# Altium schematic symbol library Schlib1.SchLib: 25 symbols
Pins are listed as number, name and electrical type; pins without a type are passive.

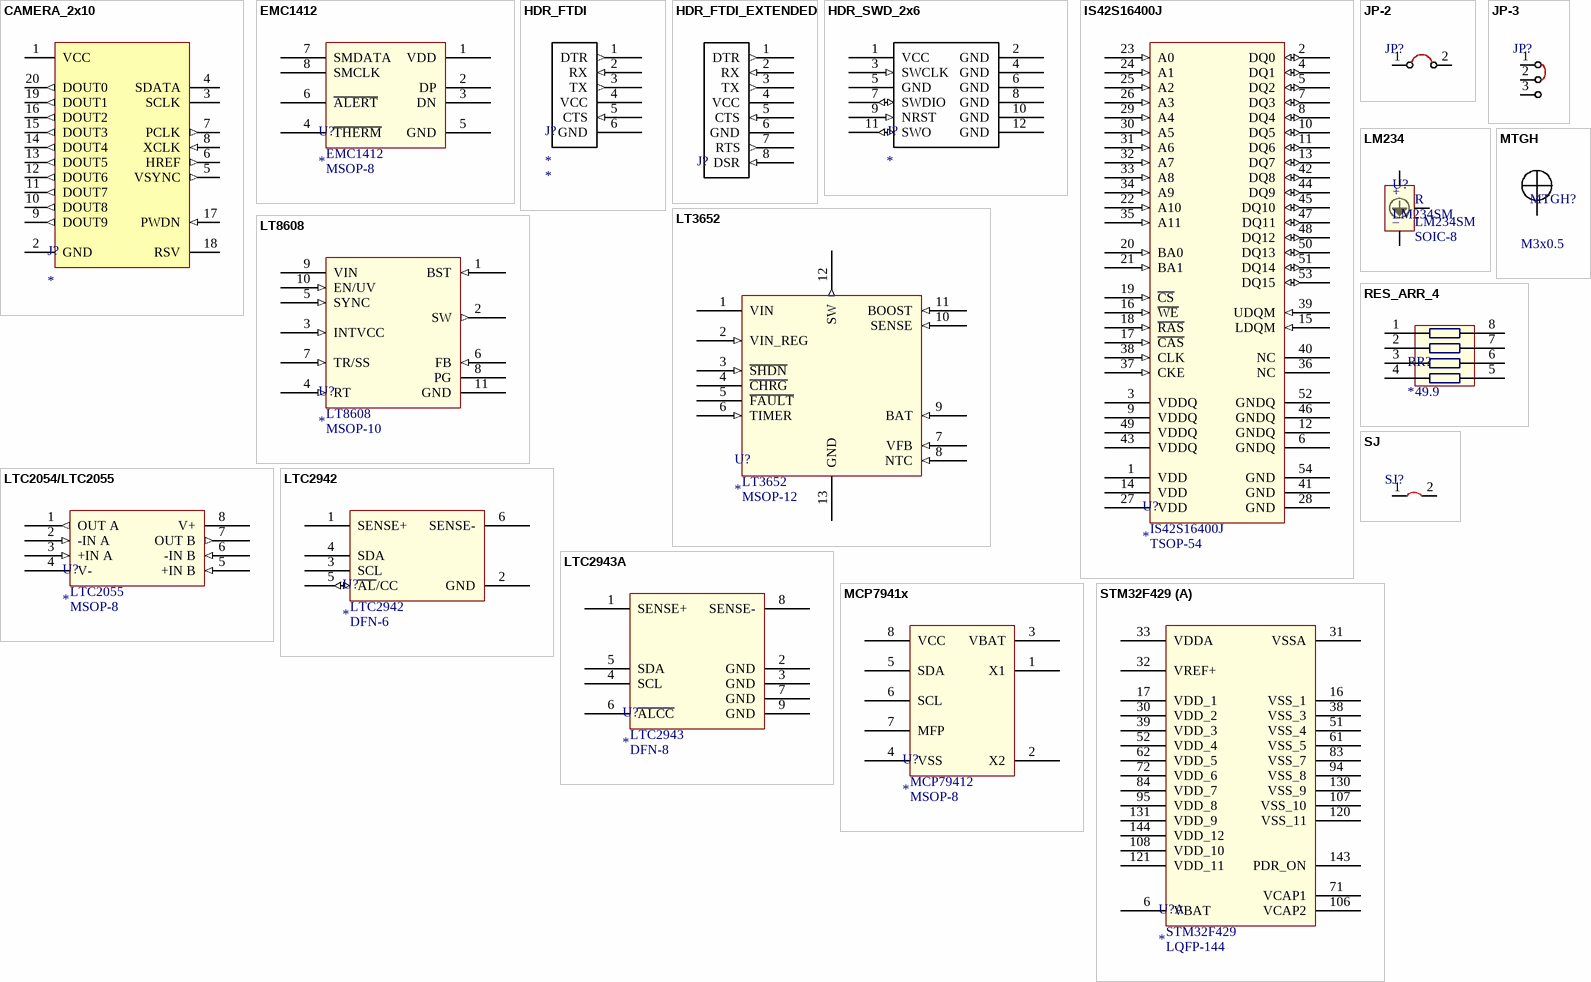
[diagram p0: symbols CAMERA_2x10 to STM32F429]

## CAMERA_2x10
designator J?
20-pin parallel camera connector for OV5642
pins: 1 VCC (power), 2 GND (power), 3 SCLK (oc), 4 SDATA (oc), 5 VSYNC (out), 6 HREF (out), 7 PCLK (out), 8 XCLK (in), 9 DOUT9 (out), 10 DOUT8 (out), 11 DOUT7 (out), 12 DOUT6 (out), 13 DOUT5 (out), 14 DOUT4 (out), 15 DOUT3 (out), 16 DOUT2 (out), 17 PWDN (in), 18 RSV, 19 DOUT1 (out), 20 DOUT0 (out)

## EMC1412
designator U?  PartNumber: EMC1412  PackageName: MSOP-8
Dual channel I2C temperature sensor
footprint TSOP65P490X110-8N (TSOP, 8-Leads, Body 3.00x3.00mm, Pitch 0.65mm (MSOP-8, MCP79412))
pins: 1 VDD (power), 2 DP, 3 DN, 4 ~{THERM} (oc), 5 GND (power), 6 ~{ALERT} (oc), 7 SMDATA (oc), 8 SMCLK (oc)

## HDR_FTDI
designator J?
Sparkfun FTDI pinout connector
footprint HDR_100TH_1x6 (100TH pin header 1x6 vertical)
pins: 1 DTR (out), 2 RX (in), 3 TX (out), 4 VCC (power), 5 CTS (in), 6 GND (power)

## HDR_FTDI_EXTENDED
designator J?  (value not drawn)
pins: 1 DTR (out), 2 RX (in), 3 TX (out), 4 VCC (power), 5 CTS (in), 6 GND (power), 7 RTS (out), 8 DSR (in)

## HDR_SWD_2x6
designator J?
6 pin SWD connector with +6 GND pins
footprint HDR_100TH_2X6_SMT (100TH pin header, 2x6, SMT)
pins: 1 VCC (power), 2 GND, 3 SWCLK (in), 4 GND, 5 GND (power), 6 GND, 7 SWDIO (io), 8 GND, 9 NRST (in), 10 GND, 11 SWO (io), 12 GND

## IS42S16400J
designator U?  PartNumber: IS42S16400J  PackageName: TSOP-54
1Mb x 16 x 4 bank (64 Mbit) SDRAM
footprint TSOP80P1170X120-54N (TSOP, 54-Leads, Body 22.22x10.16mm,  (IS42S16400J))
pins: 1 VDD (power), 2 DQ0 (io), 3 VDDQ (power), 4 DQ1 (io), 5 DQ2 (io), 6 GNDQ (power), 7 DQ3 (io), 8 DQ4 (io), 9 VDDQ (power), 10 DQ5 (io), 11 DQ6 (io), 12 GNDQ (power), 13 DQ7 (io), 14 VDD (power), 15 LDQM (in), 16 ~{WE} (in), 17 ~{CAS} (in), 18 ~{RAS} (in), 19 ~{CS} (in), 20 BA0 (in), 21 BA1 (in), 22 A10 (in), 23 A0 (in), 24 A1 (in), 25 A2 (in), 26 A3 (in), 27 VDD (power), 28 GND (power), 29 A4 (in), 30 A5 (in), 31 A6 (in), 32 A7 (in), 33 A8 (in), 34 A9 (in), 35 A11 (in), 36 NC, 37 CKE (in), 38 CLK (in), 39 UDQM (in), 40 NC, 41 GND (power), 42 DQ8 (io), 43 VDDQ (power), 44 DQ9 (io), 45 DQ10 (io), 46 GNDQ (power), 47 DQ11 (io), 48 DQ12 (io), 49 VDDQ (power), 50 DQ13 (io), 51 DQ14 (io), 52 GNDQ (power), 53 DQ15 (io), 54 GND (power)

## JP-2
designator JP?
2-pos Jumper
footprint HDR_100TH_1x2 (100TH pin header 1x2 vertical)
pins: 1, 2

## JP-3
designator JP?
3-pos Jumper
footprint HDR_100TH_1x3 (100TH pin header 1x3 vertical)
pins: 1, 2, 3

## LM234
designator U?, comment LM234SM  PackageName: SOIC-8
Adjustable current source; PartNumber: LM234SM
footprint SOIC127P600X175-8N (LM234) (SOIC, 8-Leads, Body 4.90x3.90mm, Pitch 1.27mm,)
pins: 1 V-, 2 R, 3 V+
text: +; –

## LT3652
designator U?  PartNumber: LT3652  PackageName: MSOP-12
MPPC and battery charger
footprint TSOP65P490X110_HS-13N (TSOP, 12-Leads, Body 4.04x3.00mm, Pitch 0.65mm, Thermal Pad 2.95x1.76mm,  (LT3652))
pins: 1 VIN (power), 2 VIN_REG (in), 3 ~{SHDN} (in), 4 ~{CHRG} (oc), 5 ~{FAULT} (oc), 6 TIMER (in), 7 VFB (in), 8 NTC (in), 9 BAT (in), 10 SENSE (in), 11 BOOST (in), 12 SW (out), 13 GND (power)

## LT8608
designator U?  PartNumber: LT8608  PackageName: MSOP-10
42V 1.5A step-down, low Iq
footprint TSSOP50P490X110_HS-11N (TSSOP, 10-Leads, Body 3.00x3.00mm, Pitch 0.50mm, Thermal Pad 1.88x1.68mm, IPC Medium Density)
pins: 1 BST (in), 2 SW (out), 3 INTVCC (in), 4 RT (in), 5 SYNC (in), 6 FB (in), 7 TR/SS (in), 8 PG (oc), 9 VIN (power), 10 EN/UV (in), 11 GND (power)

## LTC2054/LTC2055
designator U?  PartNumber: LTC2055  PackageName: MSOP-8
Dual zero-drift op amp
footprint TSOP65P490X110-8N (TSOP, 8-Leads, Body 3.00x3.00mm (LTC2054/LTC2055))
pins: 1 OUT A (out), 2 -IN A (in), 3 +IN A (in), 4 V- (power), 5 +IN B (in), 6 -IN B (in), 7 OUT B (out), 8 V+ (power)

## LTC2942
designator U?  PartNumber: LTC2942  PackageName: DFN-6
I2C fuel gauge
footprint DFN6-2x3-0.50 (DFN-6 2mm x 3mm, 0.50 BSC)
pins: 1 SENSE+ (power), 2 GND (power), 3 SCL (oc), 4 SDA (oc), 5 ~{AL}/CC (io), 6 SENSE- (power), 7 NC hidden

## LTC2943A
designator U?  PartNumber: LTC2943  PackageName: DFN-8
Multi-cell I2C fuel gauge
footprint DFN8-3x3 (LTC2943)
pins: 1 SENSE+, 2 GND (power), 3 GND (power), 4 SCL (oc), 5 SDA (oc), 6 ~{ALCC} (oc), 7 GND (power), 8 SENSE- (power), 9 GND (power)

## MCP7941x
designator U?  PackageName: MSOP-8  PartNumber: MCP79412
I2C RTC w/ SRAM and EEPROM
footprint TSOP65P490X110-8N (TSOP, 8-Leads, Body 3.00x3.00mm, Pitch 0.65mm (MSOP-8, MCP79412))
pins: 1 X1, 2 X2, 3 VBAT (power), 4 VSS (power), 5 SDA (oc), 6 SCL (oc), 7 MFP (oc), 8 VCC (power)

## MTGH
designator MTGH?  ScrewSize: M3x0.5  (hidden comment: *)
Mounting hole
footprint MTGH-M3x0.5 (M3 x 0.5 pan head mounting hole)
pins: 1 (power)

## RES_ARR_4
designator RR?  value 49.9
4 element resistor array
footprint CAC-80P319X150-8M (Chip Array, ConvexS, 8-Leads, Pitch 0.80mm,  Body 3.20x1.50mm, for Vishay CRA06S)
pins: 1 1A, 2 2A, 3 3A, 4 4A, 5 4B, 6 3B, 7 2B, 8 1B

## SJ
designator SJ?
Solder jumper
footprint SJ_0603
footprint SJ_0805
pins: 1, 2

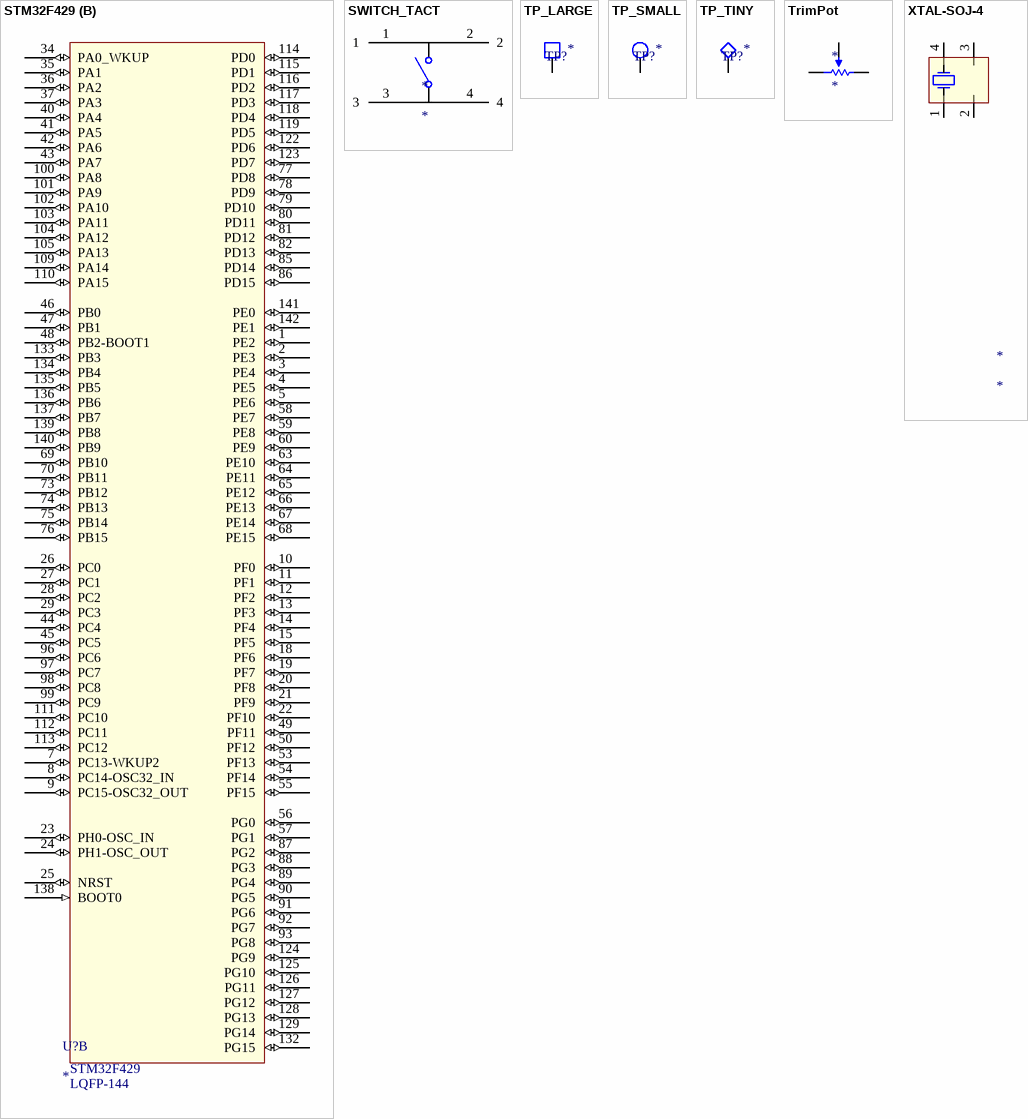
[diagram p1: symbols STM32F429 to XTAL-SOJ-4]

## STM32F429
designator U?  PartNumber: STM32F429  PackageName: LQFP-144
Cortex-M4 microcontroller
footprint TSQFP50P2200X2200X160-144M (TSQFP, 144-Leads, Body 20.00x20.00mm, Pitch 0.50mm, STM32F429)
part A pins: 6 VBAT (power), 16 VSS_1 (power), 17 VDD_1 (power), 30 VDD_2 (power), 31 VSSA (power), 32 VREF+ (power), 33 VDDA (power), 38 VSS_3 (power), 39 VDD_3 (power), 51 VSS_4 (power), 52 VDD_4 (power), 61 VSS_5 (power), 62 VDD_5 (power), 71 VCAP1 (power), 72 VDD_6 (power), 83 VSS_7 (power), 84 VDD_7 (power), 94 VSS_8 (power), 95 VDD_8 (power), 106 VCAP2 (power), 107 VSS_10 (power), 108 VDD_10 (power), 120 VSS_11 (power), 121 VDD_11 (power), 130 VSS_9 (power), 131 VDD_9 (power), 143 PDR_ON (power), 144 VDD_12 (power)
part B pins: 1 PE2 (io), 2 PE3 (io), 3 PE4 (io), 4 PE5 (io), 5 PE6 (io), 7 PC13-WKUP2 (io), 8 PC14-OSC32_IN (io), 9 PC15-OSC32_OUT (io), 10 PF0 (io), 11 PF1 (io), 12 PF2 (io), 13 PF3 (io), 14 PF4 (io), 15 PF5 (io), 18 PF6 (io), 19 PF7 (io), 20 PF8 (io), 21 PF9 (io), 22 PF10 (io), 23 PH0-OSC_IN (io), 24 PH1-OSC_OUT (io), 25 NRST (io), 26 PC0 (io), 27 PC1 (io), 28 PC2 (io), 29 PC3 (io), 34 PA0_WKUP (io), 35 PA1 (io), 36 PA2 (io), 37 PA3 (io), 40 PA4 (io), 41 PA5 (io), 42 PA6 (io), 43 PA7 (io), 44 PC4 (io), 45 PC5 (io), 46 PB0 (io), 47 PB1 (io), 48 PB2-BOOT1 (io), 49 PF11 (io), 50 PF12 (io), 53 PF13 (io), 54 PF14 (io), 55 PF15 (io), 56 PG0 (io), 57 PG1 (io), 58 PE7 (io), 59 PE8 (io), 60 PE9 (io), 63 PE10 (io), 64 PE11 (io), 65 PE12 (io), 66 PE13 (io), 67 PE14 (io), 68 PE15 (io), 69 PB10 (io), 70 PB11 (io), 73 PB12 (io), 74 PB13 (io), 75 PB14 (io), 76 PB15 (io), 77 PD8 (io), 78 PD9 (io), 79 PD10 (io), 80 PD11 (io), 81 PD12 (io), 82 PD13 (io), 85 PD14 (io), 86 PD15 (io), 87 PG2 (io), 88 PG3 (io), 89 PG4 (io), 90 PG5 (io), 91 PG6 (io), 92 PG7 (io), 93 PG8 (io), 96 PC6 (io), 97 PC7 (io), 98 PC8 (io), 99 PC9 (io), 100 PA8 (io), 101 PA9 (io), 102 PA10 (io), 103 PA11 (io), 104 PA12 (io), 105 PA13 (io), 109 PA14 (io), 110 PA15 (io), 111 PC10 (io), 112 PC11 (io), 113 PC12 (io), 114 PD0 (io), 115 PD1 (io), 116 PD2 (io), 117 PD3 (io), 118 PD4 (io), 119 PD5 (io), 122 PD6 (io), 123 PD7 (io), 124 PG9 (io), 125 PG10 (io), 126 PG11 (io), 127 PG12 (io), 128 PG13 (io), 129 PG14 (io), 132 PG15 (io), 133 PB3 (io), 134 PB4 (io), 135 PB5 (io), 136 PB6 (io), 137 PB7 (io), 138 BOOT0 (in), 139 PB8 (io), 140 PB9 (io), 141 PE0 (io), 142 PE1 (io)

## SWITCH_TACT
designator *
footprint SWITCH_TACT_6x6
pins: 1, 2, 3, 4

## TP_LARGE
designator TP?
VisibleNetName: *
footprint TP_LARGE (5016)
pins: 1

## TP_SMALL
designator TP?
VisibleNetName: *
footprint TP_SMALL (5015)
pins: 1

## TP_TINY
designator TP?
VisibleNetName: *
footprint TP_TINY (1mm round tiny testpoint)
pins: 1

## TrimPot
designator *
footprint RES_3361P (POT)
pins: 1, 2, 3

## XTAL-SOJ-4
designator *
footprint XTAL-SOJ-4
pins: 1, 2, 3, 4